# Altium footprint library nnts.PcbLib: 44 footprints (part 3 of 3)
Each footprint in its own frame and in the unit in brackets; x right, y up, seen from the top. Pads: shape width x height; smd on the part's side, far side on the other; paste and mask are expansions set on the pad; w line width, h text height; cw(c..) or ccw(c..) is an arc to the next point about the centre after c.
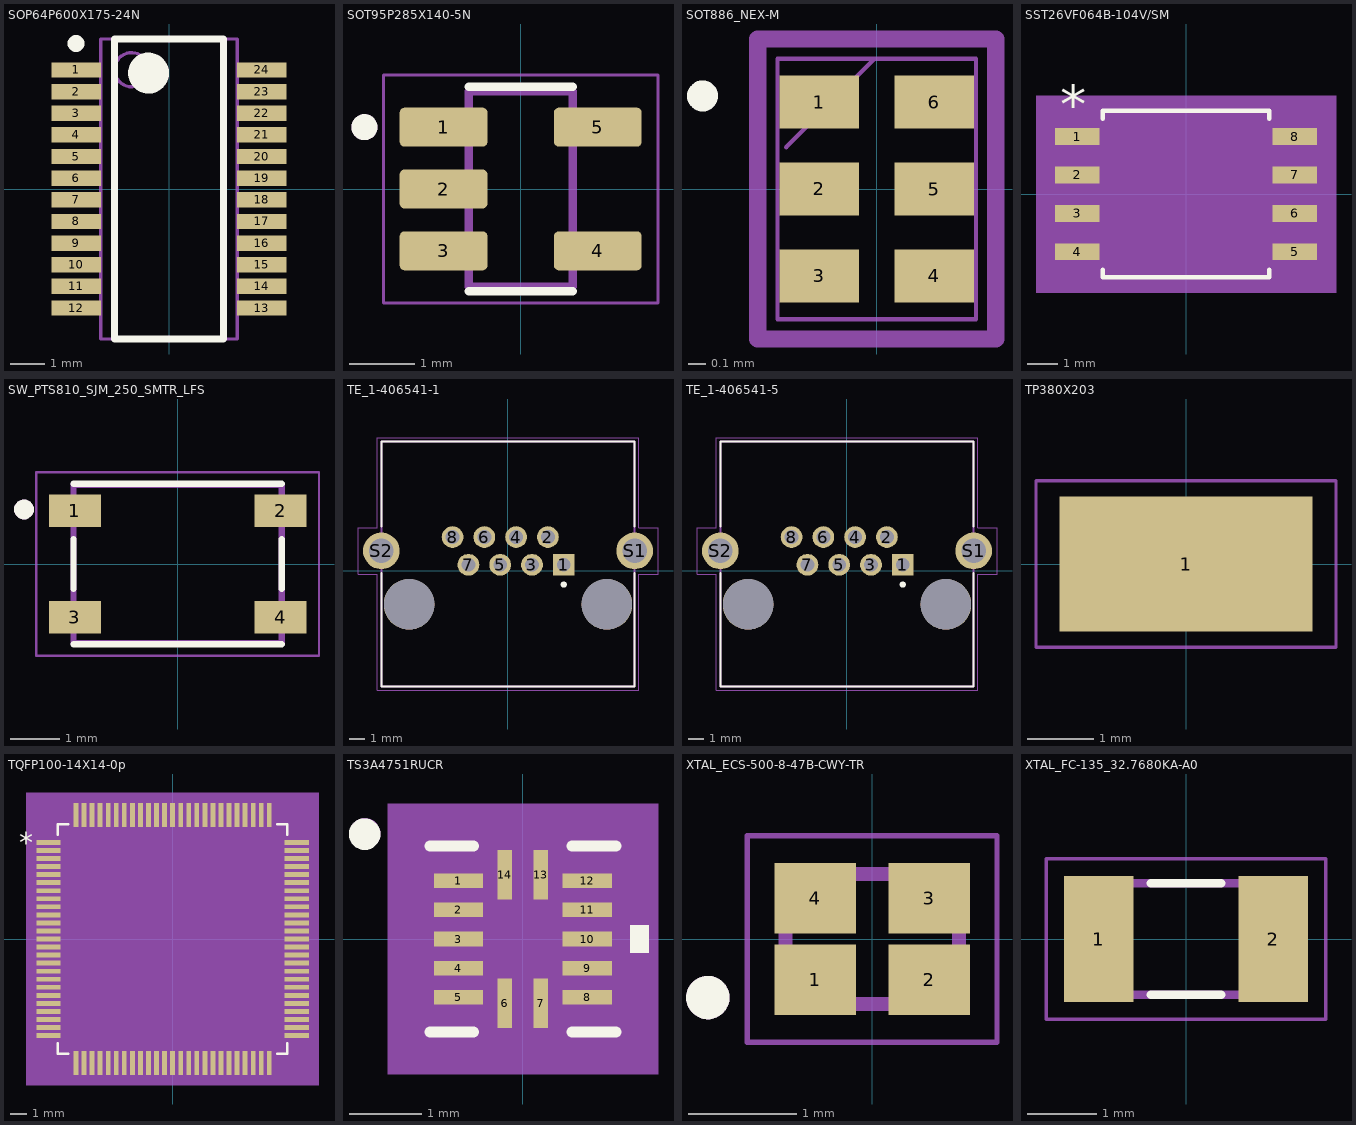
[diagram p2: the footprints below, top view; thin cyan lines are the x and y axes]

## SOP64P600X175-24N [mm] "SOP, 24-Leads, Body 8.65x3.90mm, Pitch 0.64mm, IPC Medium Density"
height 1.75
pads (24):
  rect 1.45x0.45 smd: 1(-2.725,3.492) 2(-2.725,2.857) 3(-2.725,2.222) 4(-2.725,1.587) 5(-2.725,0.953) 6(-2.725,0.318) 7(-2.725,-0.318) 8(-2.725,-0.953) 9(-2.725,-1.587) 10(-2.725,-2.222) 11(-2.725,-2.857) 12(-2.725,-3.492) 13(2.725,-3.492) 14(2.725,-2.857) 15(2.725,-2.222) 16(2.725,-1.587) 17(2.725,-0.953) 18(2.725,-0.318) 19(2.725,0.318) 20(2.725,0.953) 21(2.725,1.587) 22(2.725,2.222) 23(2.725,2.857) 24(2.725,3.492)
Top Overlay:
  circle w0.6: c-0.6,3.4 r0.3
  circle w0.25: c-2.725,4.267 r0.125
  lines w0.2: -1.6,-4.4 1.6,-4.4 1.6,4.4 -1.6,4.4 -1.6,-4.4
Mechanical 13:
  circle w0.1: c-1.1,3.5 r0.5
  lines w0.1: -2,-4.4 2,-4.4 2,4.4 -2,4.4 -2,-4.4
3D body: height 1.75, standoff 0.25, extent -2,-4.4 2,4.4

## SOT95P285X140-5N [mm]
pads (5):
  rrect25% 1.35x0.6 smd: 1(-1.185,0.95) 2(-1.185,0) 3(-1.185,-0.95) 4(1.185,-0.95) 5(1.185,0.95)
Top Overlay:
  circle w0.2: c-2.4,0.95 r0.1
  lines w0.127: -0.8,-1.57 0.8,-1.57 ; -0.8,1.57 0.8,1.57
Mechanical 13:
  circle w0.2: c-2.4,0.95 r0.1
  lines w0.127: -0.8,-1.5 -0.8,1.5 0.8,1.5 0.8,-1.5 -0.8,-1.5
Mechanical 15:
  lines w0.05: -2.11,-1.75 -2.11,1.75 2.11,1.75 2.11,-1.75 -2.11,-1.75
3D body "AP2151WG-7.STEP": height 1.37, standoff -0.03, extent -1.395,-1.5 1.405,1.5

## SOT886_NEX-M [mil]
pads (6):
  rect 18x12 smd paste+0 mask+1: 1(-13,19.71) 2(-13,0.01) 4(13,-19.68) 5(13,0) 6(13,19.68)
  rect 18x12 smd mask+1: 3(-13,-19.68)
Top Overlay:
  circle w5: c-39.5,21.1 r1
Mechanical 5:
  lines w3.94: -27,-34 27,-34 27,34 -27,34 -27,-34
  text ".Designator" at 0.94,-7.5 h19.68
Mechanical 13:
  lines w1: -20.5,9.5 -0.5,29.5 ; -22.5,-29.5 22.5,-29.5 22.5,29.5 -22.5,29.5 -22.5,-29.5
3D body: height 10, standoff 0, extent 0,0 10,10
3D body "SOT886_NEX-M.step": height 10.12, standoff 0, extent -22.51,-29.48 22.52,29.5
3D body "SOT886_NEX-M.step": height 10.12, standoff 0, extent -22.51,-29.48 22.52,29.49

## SST26VF064B-104V/SM [mil]
pads (8):
  rect 58x22 smd paste+0 mask+0: 1(-141.5,75) 2(-141.5,25) 3(-141.5,-25) 4(-141.5,-75) 5(141.5,-75) 6(141.5,-25) 7(141.5,25) 8(141.5,75)
Top Overlay:
  lines w6: -108.5,-98.47 -108.5,-108.5 108.5,-108.5 108.5,-98.47 ; -108.5,98.47 -108.5,108.5 108.5,108.5 108.5,98.47
  text "*" at -164,92 h50
Mechanical 5:
  region: 195.5,-128.5 -195.5,-128.5 -195.5,128.5 195.5,128.5
Mechanical 13:
  lines w0: -12,103.5 ccw(c0,103.5) 12,103.5
  lines w1: -156.5,-85 -103.5,-85 -103.5,-65 -156.5,-65 -156.5,-85 ; -156.5,-35 -103.5,-35 -103.5,-15 -156.5,-15 -156.5,-35 ; -156.5,15 -103.5,15 -103.5,35 -156.5,35 -156.5,15 ; -156.5,65 -103.5,65 -103.5,85 -156.5,85 -156.5,65 ; -103.5,-103.5 -103.5,103.5 103.5,103.5 103.5,-103.5 -103.5,-103.5 ; 103.5,-85 156.5,-85 156.5,-65 103.5,-65 103.5,-85 ; 103.5,-35 156.5,-35 156.5,-15 103.5,-15 103.5,-35 ; 103.5,15 156.5,15 156.5,35 103.5,35 103.5,15 ; 103.5,65 156.5,65 156.5,85 103.5,85 103.5,65
  text "*" at -101,50.5 h50
Mechanical 15:
  region: -113.5,-96 -180.5,-96 -180.5,96 -113.5,96 -113.5,113.5 113.5,113.5 113.5,96 180.5,96 180.5,-96 113.5,-96 113.5,-113.5 -113.5,-113.5
  lines w6: -180.5,-96 -113.5,-96 -113.5,-113.5 113.5,-113.5 113.5,-96 180.5,-96 180.5,96 113.5,96 113.5,113.5 -113.5,113.5 -113.5,96 -180.5,96 -180.5,-96
3D body "SOIJ8_SM_MCH.step": height 80.12, standoff 0, extent -156.49,-103.5 156.5,103.51
3D body: height 10, standoff 0, extent 0,0 10,10

## SW_PTS810_SJM_250_SMTR_LFS [mm]
pads (4):
  rect 1.05x0.65 smd: 1(-2.075,1.075) 2(2.075,1.075) 3(-2.075,-1.075) 4(2.075,-1.075)
Top Overlay:
  circle w0.2: c-3.1,1.1 r0.1
  lines w0.127: -2.1,-1.62 2.1,-1.62 ; -2.1,-0.5 -2.1,0.5 ; -2.1,1.62 2.1,1.62 ; 2.1,-0.5 2.1,0.5
Mechanical 13:
  circle w0.2: c-3.1,1.1 r0.1
  lines w0.127: -2.1,-1.6 -2.1,1.6 2.1,1.6 2.1,-1.6 -2.1,-1.6
Mechanical 15:
  lines w0.05: -2.85,-1.85 -2.85,1.85 2.85,1.85 2.85,-1.85 -2.85,-1.85
3D body "PTS810 SJM 250 SMTR LFS.STEP": height 2.71, standoff 0.01, extent -2.3,-1.6 2.3,1.6

## TE_1-406541-1 [mm]
pads (12):
  rect 1.398x1.398 hole 0.89: 1(3.58,0.38)
  round 1.398 hole 0.89: 2(2.56,2.16) 3(1.54,0.38) 4(0.52,2.16) 5(-0.5,0.38) 6(-1.52,2.16) 7(-2.54,0.38) 8(-3.56,2.16)
  round 2.355 hole 1.57: S1(8.13,1.27) S2(-8.13,1.27)
  round 3.25 hole 3.25 unplated: ""(-6.35,-2.16) ""(6.35,-2.16)
Top Overlay:
  circle w0.2: c3.58,-0.89 r0.1
  lines w0.127: -8.13,-0.16 -8.13,-7.44 8.13,-7.44 8.13,-0.16 ; -8.13,2.84 -8.13,8.3 8.13,8.3 8.13,2.84
Mechanical 13:
  lines w0.127: -8.13,-7.44 8.13,-7.44 8.13,8.3 -8.13,8.3 -8.13,-7.44
Mechanical 15:
  lines w0.05: -9.63,-0.23 -8.38,-0.23 -8.38,-7.69 8.38,-7.69 8.38,-0.23 9.63,-0.23 9.63,2.77 8.38,2.77 8.38,8.55 -8.38,8.55 -8.38,2.77 -9.63,2.77 -9.63,-0.23
3D body "c-1-406541-1-l-3d.stp": height 14.6, standoff -4.15, extent -9.347,-7.468 9.296,8.28

## TE_1-406541-5 [mm]
pads (12):
  rect 1.398x1.398 hole 0.89: 1(3.58,0.38)
  round 1.398 hole 0.89: 2(2.56,2.16) 3(1.54,0.38) 4(0.52,2.16) 5(-0.5,0.38) 6(-1.52,2.16) 7(-2.54,0.38) 8(-3.56,2.16)
  round 2.355 hole 1.57: S1(8.13,1.27) S2(-8.13,1.27)
  round 3.25 hole 3.25 unplated: ""(-6.35,-2.16) ""(6.35,-2.16)
Top Overlay:
  circle w0.2: c3.58,-0.89 r0.1
  lines w0.127: -8.13,-0.16 -8.13,-7.44 8.13,-7.44 8.13,-0.16 ; -8.13,2.84 -8.13,8.3 8.13,8.3 8.13,2.84
Mechanical 13:
  lines w0.127: -8.13,-7.44 -8.13,8.3 8.13,8.3 8.13,-7.44 -8.13,-7.44
Mechanical 15:
  lines w0.05: -9.63,-0.23 -9.63,2.77 -8.38,2.77 -8.38,8.55 8.38,8.55 8.38,2.77 9.63,2.77 9.63,-0.23 8.38,-0.23 8.38,-7.69 -8.38,-7.69 -8.38,-0.23 -9.63,-0.23
3D body "c-1-406541-5-l1-3d.stp": height 13.48, standoff -4.07, extent -8.104,-7.494 8.17,8.254

## TP380X203 [mm]
pads (1):
  rect 3.8x2.03 smd: 1(0,0)
Mechanical 15:
  lines w0.05: -2.25,-1.25 -2.25,1.25 2.25,1.25 2.25,-1.25 -2.25,-1.25
3D body "5019.STEP": height 2.3, standoff 0.01, extent -1.905,-1.015 1.905,1.015

## TQFP100-14X14-0p [mm]
pads (100):
  rect 1.5x0.3 smd paste+0 mask+0: 1(-7.7,6) 2(-7.7,5.5) 3(-7.7,5) 4(-7.7,4.5) 5(-7.7,4) 6(-7.7,3.5) 7(-7.7,3) 8(-7.7,2.5) 9(-7.7,2) 10(-7.7,1.5) 11(-7.7,1) 12(-7.7,0.5) 13(-7.7,0) 14(-7.7,-0.5) 15(-7.7,-1) 16(-7.7,-1.5) 17(-7.7,-2) 18(-7.7,-2.5) 19(-7.7,-3) 20(-7.7,-3.5) 21(-7.7,-4) 22(-7.7,-4.5) 23(-7.7,-5) 24(-7.7,-5.5) 25(-7.7,-6) 51(7.7,-6) 52(7.7,-5.5) 53(7.7,-5) 54(7.7,-4.5) 55(7.7,-4) 56(7.7,-3.5) 57(7.7,-3) 58(7.7,-2.5) 59(7.7,-2) 60(7.7,-1.5) 61(7.7,-1) 62(7.7,-0.5) 63(7.7,0) 64(7.7,0.5) 65(7.7,1) 66(7.7,1.5) 67(7.7,2) 68(7.7,2.5) 69(7.7,3) 70(7.7,3.5) 71(7.7,4) 72(7.7,4.5) 73(7.7,5) 74(7.7,5.5) 75(7.7,6)
  rect 0.3x1.5 smd paste+0 mask+0: 26(-6,-7.7) 27(-5.5,-7.7) 28(-5,-7.7) 29(-4.5,-7.7) 30(-4,-7.7) 31(-3.5,-7.7) 32(-3,-7.7) 33(-2.5,-7.7) 34(-2,-7.7) 35(-1.5,-7.7) 36(-1,-7.7) 37(-0.5,-7.7) 38(0,-7.7) 39(0.5,-7.7) 40(1,-7.7) 41(1.5,-7.7) 42(2,-7.7) 43(2.5,-7.7) 44(3,-7.7) 45(3.5,-7.7) 46(4,-7.7) 47(4.5,-7.7) 48(5,-7.7) 49(5.5,-7.7) 50(6,-7.7) 76(6,7.7) 77(5.5,7.7) 78(5,7.7) 79(4.5,7.7) 80(4,7.7) 81(3.5,7.7) 82(3,7.7) 83(2.5,7.7) 84(2,7.7) 85(1.5,7.7) 86(1,7.7) 87(0.5,7.7) 88(0,7.7) 89(-0.5,7.7) 90(-1,7.7) 91(-1.5,7.7) 92(-2,7.7) 93(-2.5,7.7) 94(-3,7.7) 95(-3.5,7.7) 96(-4,7.7) 97(-4.5,7.7) 98(-5,7.7) 99(-5.5,7.7) 100(-6,7.7)
Top Overlay:
  lines w0.152: -7.127,-6.483 -7.127,-7.127 -6.483,-7.127 ; -7.127,6.483 -7.127,7.127 -6.483,7.127 ; 6.483,-7.127 7.127,-7.127 7.127,-6.483 ; 6.483,7.127 7.127,7.127 7.127,6.483
  text "*" at -9.538,5.359 h1.27
Bottom Overlay:
  text "*" at -9.538,5.359 h1.27
Mechanical 5:
  region: 9.085,-9.085 -9.085,-9.085 -9.085,9.085 9.085,9.085
Mechanical 13:
  lines w0.025: -7,5.73 -5.73,7 ; -7,-7 7,-7 7,7 -7,7 -7,-7
  text "*" at -8.014,6.579 h1.27
Mechanical 15:
  region: -6.508,-7.254 -7.254,-7.254 -7.254,-6.508 -8.704,-6.508 -8.704,6.508 -7.254,6.508 -7.254,7.254 -6.508,7.254 -6.508,8.704 6.508,8.704 6.508,7.254 7.254,7.254 7.254,6.508 8.704,6.508 8.704,-6.508 7.254,-6.508 7.254,-7.254 6.508,-7.254 6.508,-8.704 -6.508,-8.704
  lines w0.152: -8.704,-6.508 -7.254,-6.508 -7.254,-7.254 -6.508,-7.254 -6.508,-8.704 6.508,-8.704 6.508,-7.254 7.254,-7.254 7.254,-6.508 8.704,-6.508 8.704,6.508 7.254,6.508 7.254,7.254 6.508,7.254 6.508,8.704 -6.508,8.704 -6.508,7.254 -7.254,7.254 -7.254,6.508 -8.704,6.508 -8.704,-6.508
3D body: height 0.25, standoff 0, extent 0,0 0.254,0.254
3D body "TQFP100-14X14-0p5MM_SIL.step": height 1.2, standoff 0, extent -8.026,-8.026 7.976,7.976

## TS3A4751RUCR [mm] "Texas Instruments IC Quad Switch"
pads (14):
  rect 0.68x0.2 smd paste-0.1: 1(-0.885,0.8) 2(-0.885,0.4) 3(-0.885,0) 4(-0.885,-0.4) 5(-0.885,-0.8) 8(0.885,-0.8) 9(0.885,-0.4) 10(0.885,0) 11(0.885,0.4) 12(0.885,0.8)
  rect 0.2x0.68 smd paste-0.1: 6(-0.25,-0.885) 7(0.25,-0.885) 13(0.25,0.885) 14(-0.25,0.885)
Top Overlay:
  circle w0.254: c-2.177,1.443 r0.09
  region: 1.479,0.191 1.733,0.191 1.733,-0.191 1.479,-0.191
  lines w0.152: -1.279,-1.279 -0.678,-1.279 ; -1.279,1.279 -0.678,1.279 ; 0.678,-1.279 1.279,-1.279 ; 0.678,1.279 1.279,1.279
Top Paste:
  region: -0.57,0.875 -1.2,0.875 -1.2,0.725 -0.57,0.725
  region: -0.57,0.475 -1.2,0.475 -1.2,0.325 -0.57,0.325
  region: -0.57,0.075 -1.2,0.075 -1.2,-0.075 -0.57,-0.075
  region: -0.57,-0.325 -1.2,-0.325 -1.2,-0.475 -0.57,-0.475
  region: -0.57,-0.725 -1.2,-0.725 -1.2,-0.875 -0.57,-0.875
  region: -0.175,-0.57 -0.325,-0.57 -0.325,-1.2 -0.175,-1.2
  region: 0.325,-0.57 0.175,-0.57 0.175,-1.2 0.325,-1.2
  region: 1.2,-0.725 0.57,-0.725 0.57,-0.875 1.2,-0.875
  region: 1.2,-0.325 0.57,-0.325 0.57,-0.475 1.2,-0.475
  region: 1.2,0.075 0.57,0.075 0.57,-0.075 1.2,-0.075
  region: 1.2,0.475 0.57,0.475 0.57,0.325 1.2,0.325
  region: 1.2,0.875 0.57,0.875 0.57,0.725 1.2,0.725
  region: 0.325,1.2 0.175,1.2 0.175,0.57 0.325,0.57
  region: -0.175,1.2 -0.325,1.2 -0.325,0.57 -0.175,0.57
Top Solder:
  region: -0.495,0.95 -1.275,0.95 -1.275,0.65 -0.495,0.65
  region: -0.495,0.55 -1.275,0.55 -1.275,0.25 -0.495,0.25
  region: -0.495,0.15 -1.275,0.15 -1.275,-0.15 -0.495,-0.15
  region: -0.495,-0.25 -1.275,-0.25 -1.275,-0.55 -0.495,-0.55
  region: -0.495,-0.65 -1.275,-0.65 -1.275,-0.95 -0.495,-0.95
  region: -0.1,-0.495 -0.4,-0.495 -0.4,-1.275 -0.1,-1.275
  region: 0.4,-0.495 0.1,-0.495 0.1,-1.275 0.4,-1.275
  region: 1.275,-0.25 0.495,-0.25 0.495,-0.55 1.275,-0.55
  region: 1.275,0.15 0.495,0.15 0.495,-0.15 1.275,-0.15
  region: 1.275,0.55 0.495,0.55 0.495,0.25 1.275,0.25
  region: 1.275,0.95 0.495,0.95 0.495,0.65 1.275,0.65
  region: 0.4,1.275 0.1,1.275 0.1,0.495 0.4,0.495
  region: -0.1,1.275 -0.4,1.275 -0.4,0.495 -0.1,0.495
  region: 1.275,-0.65 0.495,-0.65 0.495,-0.95 1.275,-0.95
Mechanical 5:
  region: 1.86,-1.86 -1.86,-1.86 -1.86,1.86 1.86,1.86
Mechanical 13:
  lines w0.025: -1.025,-0.245 0.245,1.025 ; -1.025,-1.025 1.025,-1.025 1.025,1.025 -1.025,1.025 -1.025,-1.025 ; -1.025,-0.925 -1.025,-0.675 -1.025,-0.925 ; -1.025,-0.525 -1.025,-0.275 -1.025,-0.525 ; -1.025,-0.125 -1.025,0.125 -1.025,-0.125 ; -1.025,0.275 -1.025,0.525 -1.025,0.275 ; -1.025,0.675 -1.025,0.925 -1.025,0.675 ; -0.325,-1.025 -0.075,-1.025 -0.325,-1.025 ; -0.325,1.025 -0.075,1.025 -0.325,1.025 ; 0.075,-1.025 0.325,-1.025 0.075,-1.025 ; 0.075,1.025 0.325,1.025 0.075,1.025 ; 1.025,-0.925 1.025,-0.675 1.025,-0.925 ; 1.025,-0.525 1.025,-0.275 1.025,-0.525 ; 1.025,-0.125 1.025,0.125 1.025,-0.125 ; 1.025,0.275 1.025,0.525 1.025,0.275 ; 1.025,0.675 1.025,0.925 1.025,0.675
Mechanical 15:
  region: 1.479,-1.479 -1.479,-1.479 -1.479,1.479 1.479,1.479
  lines w0.152: -1.479,-1.479 -1.479,1.479 1.479,1.479 1.479,-1.479 -1.479,-1.479
Mechanical 29:
  circle w0.254: c-2.172,1.45 r0.085
3D body: height 0.25, standoff 0, extent 0,0 0.254,0.254
3D body "RUC0014A.stp": height 0.4, standoff 0, extent -1,-1 1,1

## XTAL_ECS-500-8-47B-CWY-TR [mm]
pads (4):
  rect 0.75x0.65 smd: 1(-0.525,-0.375) 2(0.525,-0.375) 3(0.525,0.375) 4(-0.525,0.375)
Top Overlay:
  circle w0.2: c-1.515,-0.54 r0.1
Mechanical 13:
  circle w0.2: c-1.515,-0.54 r0.1
  lines w0.127: -0.8,-0.6 -0.8,0.6 0.8,0.6 0.8,-0.6 -0.8,-0.6
Mechanical 15:
  lines w0.05: -1.15,-0.95 -1.15,0.95 1.15,0.95 1.15,-0.95 -1.15,-0.95
3D body "ECS-500-8-47Q-CES-TR.STEP": height 0.35, standoff 0, extent -0.8,-0.6 0.8,0.6

## XTAL_FC-135_32.7680KA-A0 [mm]
pads (2):
  rect 1x1.8 smd: 1(-1.25,0) 2(1.25,0)
Top Overlay:
  lines w0.127: -0.5,-0.8 0.5,-0.8 ; -0.5,0.8 0.5,0.8
Mechanical 13:
  lines w0.127: -1.65,-0.8 1.65,-0.8 1.65,0.8 -1.65,0.8 -1.65,-0.8
Mechanical 15:
  lines w0.05: -2,-1.15 2,-1.15 2,1.15 -2,1.15 -2,-1.15
3D body "User Library-Crystal FC-135.STEP": height 0.8, standoff 0, extent -1.6,-0.75 1.6,0.75